# EAGLE library part OPA2388IDGKT (library OPA2388IDGKT)
Single Supplｙ True Rail-to-Rail Operational Amplifiers
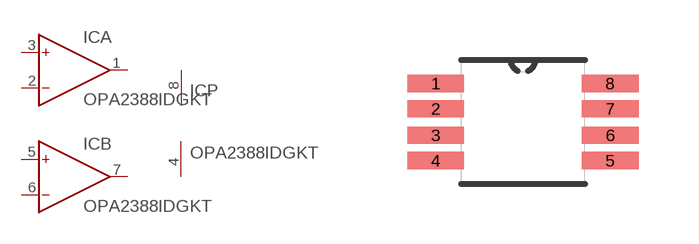
[diagram p0: symbol with the pads of SOP65P490X110-9N; footprint SOP65P490X110-9N]

Designator prefix IC; gates A=OP B=OP P=+-PWR

## OPA2388IDGKT (AVAILABILITY: Uavailable; MF: Texsas Instruments; MP: OPA2388IDGKT; PACKAGE: MSOP-8 Texas Instruments; PRICE: None)  [SOP65P490X110-9N]
1  A:OUT  out
2  A:IN-  in
3  A:IN+  in
4  P:V-  pwr
5  B:IN+  in
6  B:IN-  in
7  B:OUT  out
8  P:V+  pwr

## Footprint SOP65P490X110-9N (pad centres in mm)
smd 1.422 x 0.432: 1 -2.184,0.965; 2 -2.184,0.33; 3 -2.184,-0.33; 4 -2.184,-0.965; 5 2.184,-0.965; 6 2.184,-0.33; 7 2.184,0.33; 8 2.184,0.965